# Altium schematic symbol library EFR32BG1B232F256GM48-C0.SchLib: 1 symbol
Pins are listed as number, name and electrical type; pins without a type are passive.

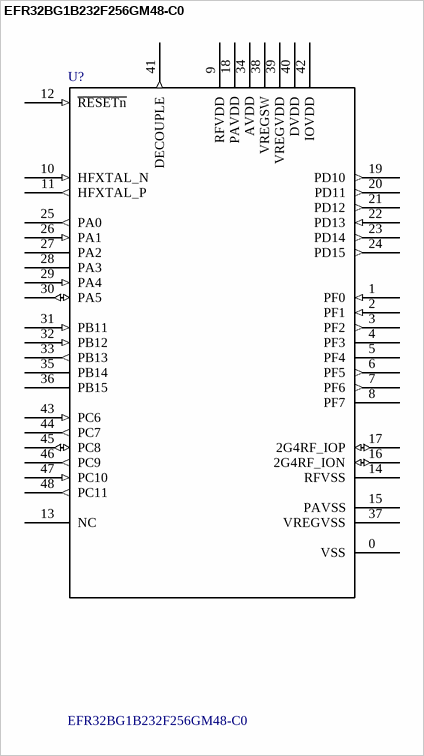
[diagram p0: symbol EFR32BG1B232F256GM48-C0]

## EFR32BG1B232F256GM48-C0
designator U?
EFR32BG1B232F256GM48-C0 48 pin; MF: Silicon Labs; Availability: Unavailable; MP: EFR32BG1B232F256GM48-C0; Price: None; Package: QFN-48; Value: *
pins: 0 VSS (power), 1 PF0 (in), 2 PF1 (in), 3 PF2 (out), 4 PF3, 5 PF4, 6 PF5 (out), 7 PF6 (out), 8 PF7, 9 RFVDD (power), 10 HFXTAL_N (in), 11 HFXTAL_P (out), 12 ~{RESETn} (in), 13 NC, 14 RFVSS (power), 15 PAVSS (power), 16 2G4RF_ION (io), 17 2G4RF_IOP (io), 18 PAVDD (power), 19 PD10 (out), 20 PD11 (out), 21 PD12 (out), 22 PD13 (in), 23 PD14 (out), 24 PD15 (out), 25 PA0 (out), 26 PA1 (in), 27 PA2, 28 PA3, 29 PA4 (in), 30 PA5 (io), 31 PB11 (in), 32 PB12 (in), 33 PB13 (out), 34 AVDD (power), 35 PB14, 36 PB15, 37 VREGVSS (power), 38 VREGSW (power), 39 VREGVDD (power), 40 DVDD (power), 41 DECOUPLE (out), 42 IOVDD (power), 43 PC6 (in), 44 PC7 (out), 45 PC8 (io), 46 PC9 (out), 47 PC10 (in), 48 PC11 (out)